# Altium integrated library Maze.IntLib: 2 symbols
Pins are listed as number, name and electrical type; pins without a type are passive.

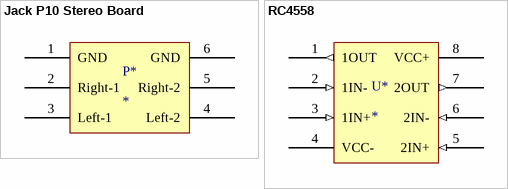
[diagram p0: symbols Jack P10 Stereo Board to RC4558]

## Jack P10 Stereo Board
designator P*
footprint J10
pins: 1 GND (power), 2 Right-1, 3 Left-1, 4 Left-2, 5 Right-2, 6 GND

## RC4558
designator U*
footprint RC4558DIP8
pins: 1 1OUT (out), 2 1IN- (in), 3 1IN+ (in), 4 VCC- (power), 5 2IN+ (in), 6 2IN- (in), 7 2OUT (out), 8 VCC+ (power)